# Altium schematic symbol library Jumper 6.SchLib: 1 symbol
Pins are listed as number, name and electrical type; pins without a type are passive.

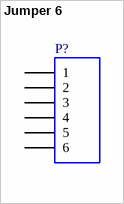
[diagram p0: symbol Jumper 6]

## Jumper 6
designator P?
Jumper / link header, 6-Pin
pins: 1, 2, 3, 4, 5, 6